# Altium integrated library IC_Hole_CD4051_Analog_MUX.IntLib: 1 symbol
Pins are listed as number, name and electrical type; pins without a type are passive.

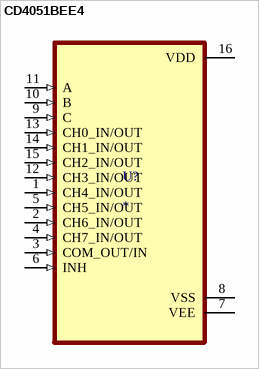
[diagram p0: symbol CD4051BEE4]

## CD4051BEE4
designator U?
20-V, 8:1, 1-channel analog multiplexer with logic-level conversion; MF: Texas Instruments; MP: CD4051BEE4; SnapEDA_Link: https://www.snapeda.com/parts/CD4051BEE4/Texas+Instruments/view-part/?ref=snap; Package: PDIP-16 Texas Instruments; Value: *; Check_prices: https://www.snapeda.com/parts/CD4051BEE4/Texas+Instruments/view-part/?ref=eda
footprint DIP794W45P254L1969H508Q16
pins: 1 CH4_IN/OUT (in), 2 CH6_IN/OUT (in), 3 COM_OUT/IN (in), 4 CH7_IN/OUT (in), 5 CH5_IN/OUT (in), 6 INH (in), 7 VEE (power), 8 VSS (power), 9 C (in), 10 B (in), 11 A (in), 12 CH3_IN/OUT (in), 13 CH0_IN/OUT (in), 14 CH1_IN/OUT (in), 15 CH2_IN/OUT (in), 16 VDD (power)